# EAGLE library part LMP92064SD (library LMP92064SD - LMP92064 Precision Low-Side, 125-kSps Simultaneous Sampling Current Sensor and Voltage Monitor With SPI)
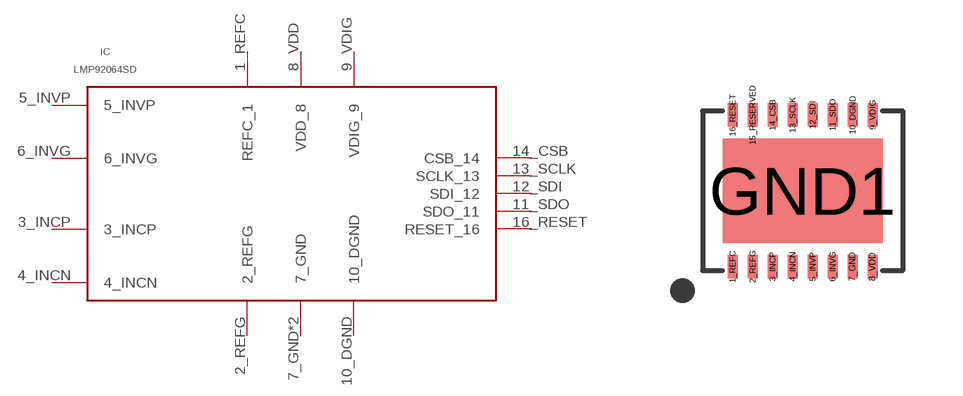
[diagram p0: symbol with the pads of WSON-16; footprint WSON-16]

Designator prefix IC

## LMP92064SD  [WSON-16]
1_REFC  REFC_1
2_REFG  2_REFG  pwr
3_INCP  3_INCP  in
4_INCN  4_INCN  out
5_INVP  5_INVP  in
6_INVG  6_INVG  out
7_GND  7_GND  pwr
8_VDD  VDD_8  pwr
9_VDIG  VDIG_9  pwr
10_DGND  10_DGND  pwr
11_SDO  SDO_11  out
12_SDI  SDI_12  in
13_SCLK  SCLK_13  in
14_CSB  CSB_14
16_RESET  RESET_16  in
GND1  7_GND  pwr

## Footprint WSON-16 (pad centres in mm)
smd 0.25 x 0.6: 1_REFC -1.75,-1.9; 2_REFG -1.25,-1.9; 3_INCP -0.75,-1.9; 4_INCN -0.25,-1.9; 5_INVP 0.25,-1.9; 6_INVG 0.75,-1.9; 7_GND 1.25,-1.9; 8_VDD 1.75,-1.9; 9_VDIG 1.75,1.9; 10_DGND 1.25,1.9; 11_SDO 0.75,1.9; 12_SDI 0.25,1.9; 13_SCLK -0.25,1.9; 14_CSB -0.75,1.9; 15_RESERVED -1.25,1.9; 16_RESET -1.75,1.9
smd 4 x 2.6: GND1 0,0